# Altium footprint library PCB - IND - MPS5000.PCBLIB: 1 footprints
Each footprint in its own frame and in the unit in brackets; x right, y up, seen from the top. Pads: shape width x height; smd on the part's side, far side on the other; paste and mask are expansions set on the pad; w line width, h text height; cw(c..) or ccw(c..) is an arc to the next point about the centre after c.
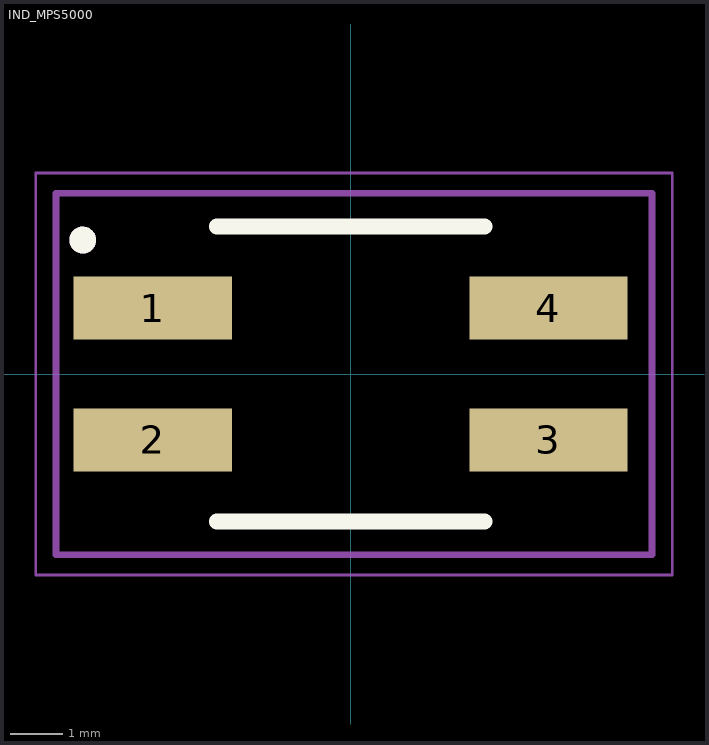
[diagram p0: the footprint, top view; thin cyan lines are the x and y axes]

## IND_MPS5000 [mm] "CM Filter, Murata PS, Body 7.0x5.9 mm"
height 4.4
pads (4):
  rect 3x1.2 smd: 1(-3.75,1.25) 2(-3.75,-1.25) 3(3.75,-1.25) 4(3.75,1.25)
Top Overlay:
  circle w0.254: c-5.08,2.54 r0.127
  lines w0.3: -2.54,-2.794 2.54,-2.794 ; -2.54,2.794 2.54,2.794
Top Assembly:
  circle w0.254: c-5.08,2.54 r0.127
  lines w0.127: -5.588,-3.429 5.715,-3.429 5.715,3.429 -5.588,3.429 -5.588,-3.429
Top Courtyard:
  lines w0.051: -5.969,-3.81 6.096,-3.81 6.096,3.81 -5.969,3.81 -5.969,-3.81
Top Designator:
  text ".Designator" at -5.588,5.588 h1
Top Value (Mech13):
  text ".Comment" at -5.588,4.572 h1
3D body "mps_mag_5000_smt_a.STEP": height 4.04, standoff 0.01, extent -4.6,-2.95 4.6,2.95